# Altium footprint library 7-seg 0.36in 3-digit.PcbLib: 1 footprints
Each footprint in its own frame and in the unit in brackets; x right, y up, seen from the top. Pads: shape width x height; smd on the part's side, far side on the other; paste and mask are expansions set on the pad; w line width, h text height; cw(c..) or ccw(c..) is an arc to the next point about the centre after c.
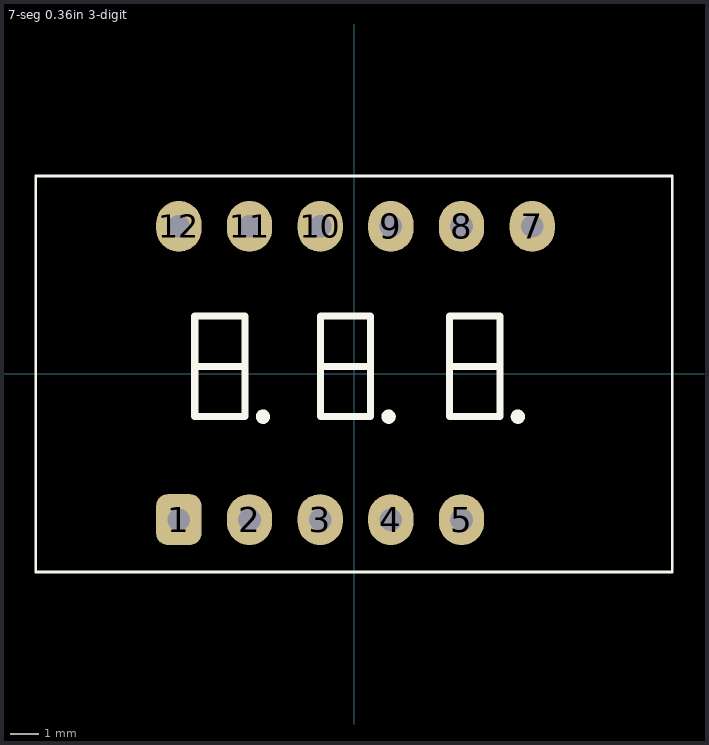
[diagram p0: the footprint, top view; thin cyan lines are the x and y axes]

## 7-seg 0.36in 3-digit [mm]
height 18
pads (12):
  rrect50% 1.6x1.8 hole 0.8: 1(-6.2,-5.166)
  oval 1.6x1.8 hole 0.8: 2(-3.7,-5.166) 3(-1.2,-5.166) 4(1.3,-5.166) 5(3.8,-5.166) 7(6.3,5.207) 8(3.8,5.207) 9(1.3,5.207) 10(-1.2,5.207) 11(-3.7,5.207) 12(-6.2,5.207)
  round 0 all layers, no hole: 12(6.3,-5.166)
Top Overlay:
  circle w0.254: c-3.225,-1.524 r0.127
  circle w0.254: c1.22,-1.524 r0.127
  circle w0.254: c5.792,-1.524 r0.127
  lines w0.1: -11.26,-7.015 11.253,-7.015 11.253,6.985 -11.26,6.985 -11.26,-7.015
  lines w0.254: -5.638,0.254 -3.86,0.254 -3.86,2.032 ; -1.193,0.254 0.585,0.254 0.585,2.032 ; 3.379,0.254 5.157,0.254 5.157,2.032 ; -5.638,2.032 -5.638,-1.524 -3.86,-1.524 -3.86,2.032 ; -5.638,2.032 -3.86,2.032 ; -5.638,2.032 -3.86,2.032 ; -1.193,2.032 -1.193,-1.524 0.585,-1.524 0.585,2.032 ; -1.193,2.032 0.585,2.032 ; -1.193,2.032 0.585,2.032 ; 3.379,2.032 3.379,-1.524 5.157,-1.524 5.157,2.032 ; 3.379,2.032 5.157,2.032 ; 3.379,2.032 5.157,2.032
3D body "User Library-3631_Red_jam.STEP": height 11.1, standoff -1.5, extent -11.25,-7 11.15,7